# EAGLE library part DPDT (library TinyNES_Library)
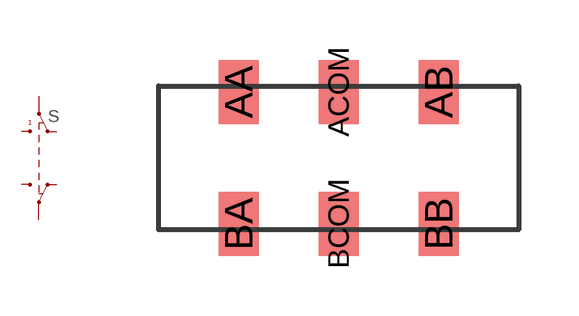
[diagram p13: symbol with the pads of JS202011J; footprint JS202011J]

Designator prefix S

## DPDT  [JS202011J]
AA  4
AB  6
ACOM  5
BA  1
BB  3
BCOM  2

## Footprint JS202011J (pad centres in mm)
smd 1 x 1.6: AA -2.5,1.65; AB 2.5,1.65; ACOM 0,1.65; BA -2.5,-1.65; BB 2.5,-1.65; BCOM 0,-1.65